# EAGLE library part MOLEX-KK-6-F (library components)
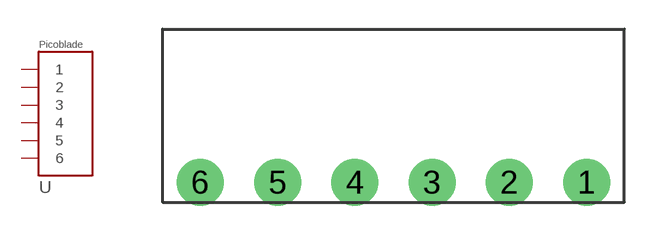
[diagram p17: symbol with the pads of KK41815-FEMALE-6; footprint KK41815-FEMALE-6]

Designator prefix -

## MOLEX-KK-6-F  [KK41815-FEMALE-6]
1  1
2  2
3  3
4  4
5  5
6  6

## Footprint KK41815-FEMALE-6 (pad centres in mm)
drill 1.6: 1 19.812,0; 2 15.85,0; 3 11.887,0; 4 7.925,0; 5 3.962,0; 6 0,0